# EAGLE library part INA260 (library Transputer)
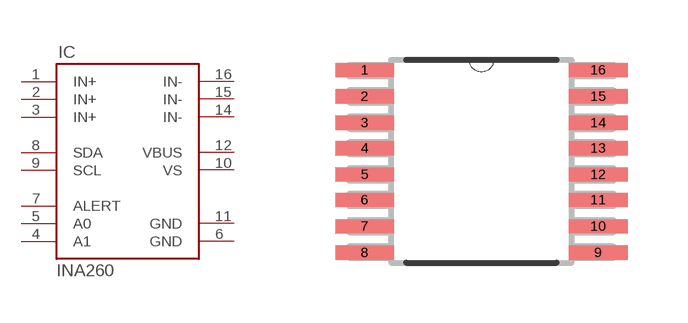
[diagram p12: symbol with the pads of TSSOP-16; footprint TSSOP-16]

Designator prefix IC

## INA260  [TSSOP-16]
1  IN+  pas
2  IN+  pas
3  IN+  pas
4  A1  in
5  A0  in
6  GND  pwr
7  ALERT  out
8  SDA
9  SCL
10  VS  pwr
11  GND  pwr
12  VBUS  pas
14  IN-  pas
15  IN-  pas
16  IN-  pas

## Footprint TSSOP-16 (pad centres in mm)
smd 1.473 x 0.356: 1 -2.921,2.286; 2 -2.921,1.626; 3 -2.921,0.965; 4 -2.921,0.33; 5 -2.921,-0.33; 6 -2.921,-0.965; 7 -2.921,-1.626; 8 -2.921,-2.286; 9 2.921,-2.286; 10 2.921,-1.626; 11 2.921,-0.965; 12 2.921,-0.33; 13 2.921,0.33; 14 2.921,0.965; 15 2.921,1.626; 16 2.921,2.286